# Altium footprint library IFBpcblib.PcbLib: 85 footprints (part 6 of 6)
Each footprint in its own frame and in the unit in brackets; x right, y up, seen from the top. Pads: shape width x height; smd on the part's side, far side on the other; paste and mask are expansions set on the pad; w line width, h text height; cw(c..) or ccw(c..) is an arc to the next point about the centre after c.
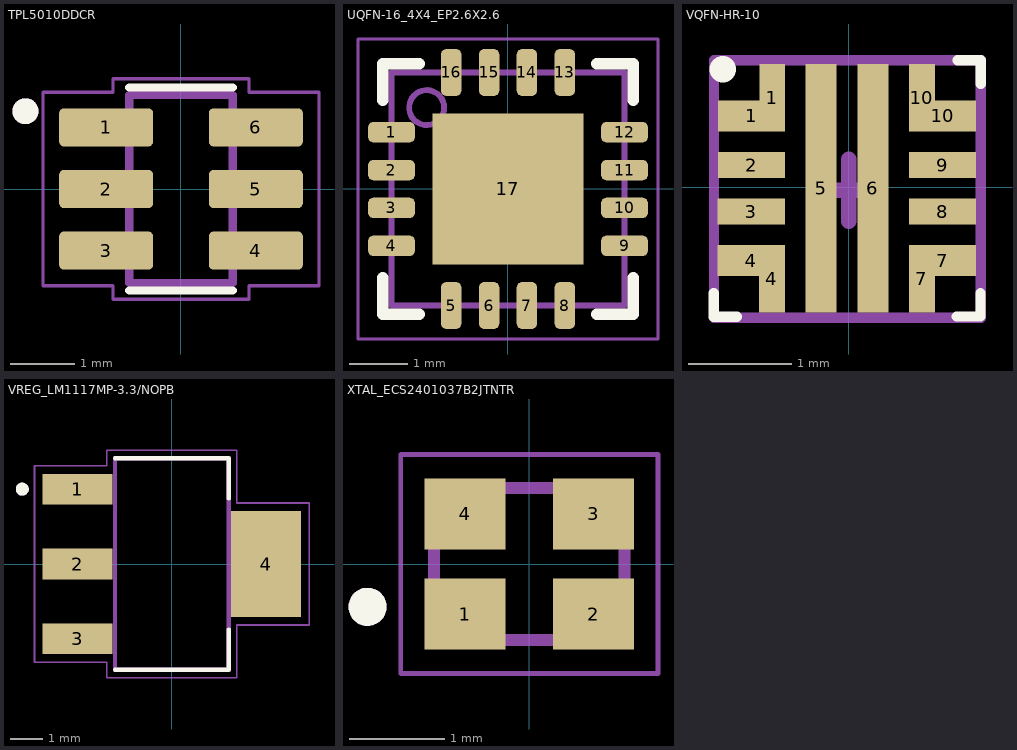
[diagram p5: the footprints below, top view; thin cyan lines are the x and y axes]

## TPL5010DDCR [mm]
pads (6):
  rrect25% 1.45x0.59 smd: 1(-1.155,0.95) 2(-1.155,0) 3(-1.155,-0.95) 4(1.155,-0.95) 5(1.155,0) 6(1.155,0.95)
Top Overlay:
  circle w0.2: c-2.4,1.2 r0.1
  lines w0.127: -0.8,-1.565 0.8,-1.565 ; -0.8,1.565 0.8,1.565
Mechanical 13:
  circle w0.2: c-2.4,1.2 r0.1
  lines w0.127: -0.8,-1.45 0.8,-1.45 0.8,1.45 -0.8,1.45 -0.8,-1.45
Mechanical 15:
  lines w0.05: -2.13,-1.495 -1.05,-1.495 -1.05,-1.7 1.05,-1.7 1.05,-1.495 2.13,-1.495 2.13,1.495 1.05,1.495 1.05,1.7 -1.05,1.7 -1.05,1.495 -2.13,1.495 -2.13,-1.495
3D body "step_temp.STEP": height 1.1, standoff 0, extent -1.4,-1.45 1.4,1.45

## UQFN-16_4X4_EP2.6X2.6 [mm]
height 0.5
pads (17):
  rrect50% 0.8x0.35 smd paste+0 mask+0.075: 1(-2,0.975) 2(-2,0.325) 3(-2,-0.325) 4(-2,-0.975) 9(2,-0.975) 10(2,-0.325) 11(2,0.325) 12(2,0.975)
  rrect50% 0.35x0.8 smd paste+0 mask+0.057: 5(-0.975,-2) 6(-0.325,-2) 7(0.325,-2) 8(0.975,-2) 13(0.975,2) 14(0.325,2) 15(-0.325,2) 16(-0.975,2)
  rect 2.6x2.6 smd paste-0.25 mask+0.075: 17(0,0)
Top Overlay:
  lines w0.2: -2.15,-1.525 -2.15,-2.15 -1.525,-2.15 ; -2.15,1.525 -2.15,2.15 -1.525,2.15 ; 1.525,-2.15 2.15,-2.15 2.15,-1.525 ; 1.525,2.15 2.15,2.15 2.15,1.525
  text "." at -3,1.75 h1
Top Assembly:
  circle w0.1: c-1.397,1.397 r0.3
  lines w0.1: -2,-2 2,-2 2,2 -2,2 -2,-2
Top Courtyard:
  lines w0.05: -2.575,-2.575 2.575,-2.575 2.575,2.575 -2.575,2.575 -2.575,-2.575
  lines w0.1: -0.5,0 0.5,0 ; 0,-0.5 0,0.5
3D body "QFN127P600-8N.step": height 0.5, standoff 0, extent -2.001,-2.001 2.001,2.001

## VQFN-HR-10 [mm]
pads (14):
  rect 0.65x0.3 smd: 1(-0.938,0.692) 4(-0.941,-0.708) 7(0.909,-0.708) 10(0.909,0.692)
  rect 0.25x0.65 smd: 1(-0.738,0.867) 4(-0.741,-0.883) 7(0.709,-0.883) 10(0.709,0.867)
  rect 0.65x0.25 smd: 2(-0.938,0.216) 3(-0.941,-0.233) 8(0.909,-0.233) 9(0.909,0.216)
  rect 0.3x2.4 smd: 5(-0.265,-0.008) 6(0.235,-0.007)
Top Overlay:
  lines w0.1: -1.304,-1.022 -1.304,-1.25 -1.078,-1.25 ; 1.047,-1.247 1.275,-1.247 1.275,-1.021 ; 1.053,1.228 1.279,1.228 1.279,1
  lines w0.254: -1.216,1.143 -1.213,1.143
Top 3D Body:
  lines w0.1: -1.301,-1.261 1.278,-1.261 1.278,1.231 -1.301,1.231 -1.301,-1.261
  lines w0.15: -0.298,-0.027 0.302,-0.027 ; 0.002,-0.327 0.002,0.273
3D body "TPS259470ARPWR.step": height 1, standoff 0, extent -1.028,-1.005 0.972,0.995

## VREG_LM1117MP-3.3/NOPB [mm]
height 1.8
pads (4):
  rect 2.15x0.95 smd: 1(-2.9,2.3) 2(-2.9,0) 3(-2.9,-2.3)
  rect 2.15x3.25 smd: 4(2.9,0)
Top Overlay:
  circle w0.2: c-4.6,2.3 r0.1
  lines w0.127: -1.75,-3.25 1.75,-3.25 1.75,-2.01 ; -1.75,3.25 1.75,3.25 1.75,2.01
Mechanical 13:
  circle w0.2: c-4.6,2.3 r0.1
  lines w0.127: -1.75,-3.25 1.75,-3.25 1.75,3.25 -1.75,3.25 -1.75,-3.25
Mechanical 15:
  lines w0.05: -4.225,-3.025 -2,-3.025 -2,-3.5 2,-3.5 2,-1.875 4.225,-1.875 4.225,1.875 2,1.875 2,3.5 -2,3.5 -2,3.025 -4.225,3.025 -4.225,-3.025
3D body "step_temp.STEP": height 1.8, standoff 0, extent -3.499,-3.25 3.499,3.25

## XTAL_ECS2401037B2JTNTR [mm]
pads (4):
  rect 0.85x0.75 smd paste+0 mask+0.102: 1(-0.675,-0.525) 2(0.675,-0.525) 3(0.675,0.525) 4(-0.675,0.525)
Top Overlay:
  circle w0.2: c-1.7,-0.45 r0.1
Mechanical 13:
  circle w0.2: c-1.7,-0.45 r0.1
  lines w0.127: -1,-0.8 1,-0.8 1,0.8 -1,0.8 -1,-0.8
Mechanical 15:
  lines w0.05: -1.35,-1.15 1.35,-1.15 1.35,1.15 -1.35,1.15 -1.35,-1.15
3D body "step_temp.STEP": height 0.5, standoff 0, extent -1,-0.8 1,0.8